# Altium footprint library reguladores tension.PcbLib: 3 footprints
Each footprint in its own frame and in the unit in brackets; x right, y up, seen from the top. Pads: shape width x height; smd on the part's side, far side on the other; paste and mask are expansions set on the pad; w line width, h text height; cw(c..) or ccw(c..) is an arc to the next point about the centre after c.
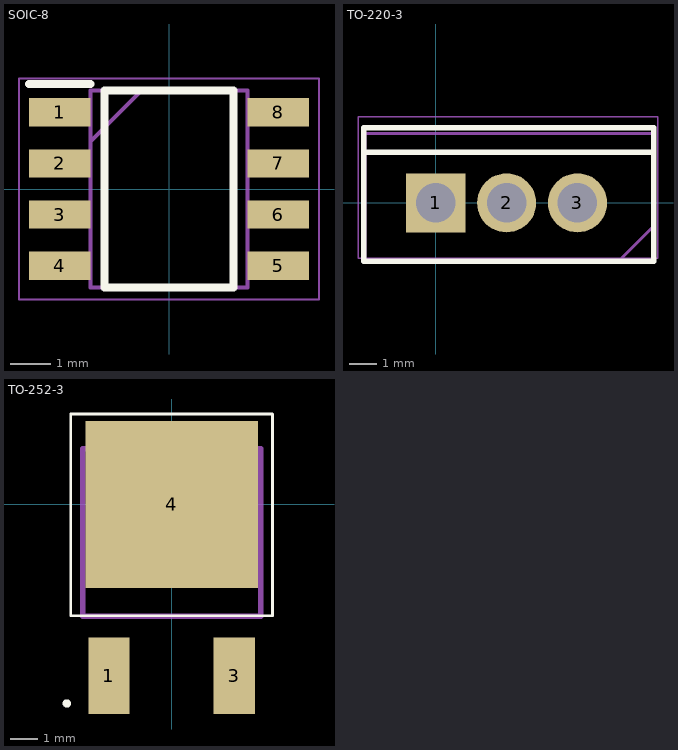
[diagram p0: the footprints below, top view; thin cyan lines are the x and y axes]

## SOIC-8 [mm]
pads (8):
  rect 1.525x0.7 smd: 1(-2.712,1.905) 2(-2.712,0.635) 3(-2.712,-0.635) 4(-2.712,-1.905) 5(2.712,-1.905) 6(2.712,-0.635) 7(2.712,0.635) 8(2.712,1.905)
Top Overlay:
  lines w0.2: -3.475,2.605 -1.95,2.605 ; -1.6,-2.45 1.6,-2.45 1.6,2.45 -1.6,2.45 -1.6,-2.45
Mechanical 13:
  lines w0.1: -1.95,1.18 -0.68,2.45 ; -1.95,-2.45 1.95,-2.45 1.95,2.45 -1.95,2.45 -1.95,-2.45
Mechanical 15:
  lines w0.05: -3.725,-2.75 3.725,-2.75 3.725,2.75 -3.725,2.75 -3.725,-2.75
3D body "SOIC8.step": height 1.75, standoff 0, extent -3,-2.45 3,2.45

## TO-220-3 [mm]
pads (3):
  rect 2.13x2.13 hole 1.42: 1(0,0)
  round 2.13 hole 1.42: 2(2.55,0) 3(5.1,0)
Top Overlay:
  lines w0.2: -2.547,1.824 7.853,1.824 ; -2.601,-2.1 -2.599,2.713 7.853,2.713 7.85,-2.1 -2.601,-2.1
Mechanical 13:
  lines w0.1: 6.575,-2.1 7.85,-0.825 ; -2.55,-2.1 7.85,-2.1 7.85,2.5 -2.55,2.5 -2.55,-2.1
Mechanical 15:
  lines w0.05: -2.801,3.094 -2.8,-2 8,-2 8,3.1 -2.801,3.094
3D body "TO-220-3.step": height 19.31, standoff -9.47, extent -2.35,-2 7.55,2.5

## TO-252-3 [mm]
pads (3):
  rect 1.5x2.8 smd: 1(-2.286,-6.25) 3(2.286,-6.25)
  rect 6.3x6.1 smd: 4(0,0)
Top Overlay:
  lines w0.1: -3.683,-4.064 -3.683,3.302 3.683,3.302 3.683,-4.064 ; -3.683,-4.064 3.683,-4.064 ; -3.683,-4.064 3.683,-4.064
  lines w0.2: -3.876,-7.266 ccw(c-3.826,-7.266) -3.776,-7.266 ; -3.876,-7.266 cw(c-3.826,-7.266) -3.776,-7.266 ; -3.876,-7.266 ccw(c-3.826,-7.266) -3.776,-7.266
Mechanical 13:
  lines w0.2: -3.25,-4.075 3.25,-4.075 3.25,2.025 -3.25,2.025 -3.25,-4.075
3D body "LM317MDTG.STEP": height 2.48, standoff -0.03, extent -3.25,-7.108 3.25,2.798